# EAGLE library part PROTO (library Pinoccio)
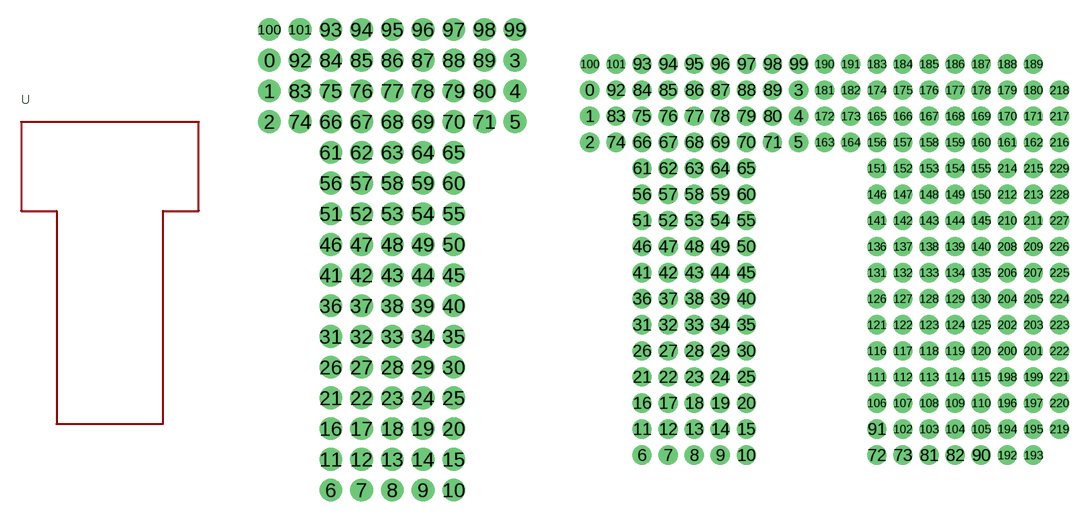
[diagram p12: symbol with the pads of 1X1PROTO; footprints 1X1PROTO, 1X1PROTOBIG]

Designator prefix -

## PROTO1  [1X1PROTO]
0  P$1
1  P$2
2  P$3
3  P$4
4  P$5
5  P$71
6  P$6
7  P$7
8  P$8
9  P$9
10  P$10
11  P$11
12  P$12
13  P$13
14  P$14
15  P$15
16  P$16
17  P$17
18  P$18
19  P$19
20  P$20
21  P$21
22  P$22
23  P$23
24  P$24
25  P$25
26  P$26
27  P$27
28  P$28
29  P$29
30  P$30
31  P$31
32  P$32
33  P$33
34  P$34
35  P$35
36  P$36
37  P$37
38  P$38
39  P$39
40  P$40
41  P$41
42  P$42
43  P$43
44  P$44
45  P$45
46  P$46
47  P$47
48  P$48
49  P$49
50  P$50
51  P$51
52  P$52
53  P$53
54  P$54
55  P$55
56  P$56
57  P$57
58  P$58
59  P$59
60  P$60
61  P$61
62  P$62
63  P$63
64  P$64
65  P$65
66  P$66
67  P$67
68  P$68
69  P$69
70  P$70
71  P$72
74  P$73
75  P$75
76  P$76
77  P$77
78  P$78
79  P$79
80  P$81
83  P$82
84  P$84
85  P$85
86  P$86
87  P$87
88  P$88
89  P$90
92  P$91
93  P$93
94  P$94
95  P$95
96  P$96
97  P$97
98  P$98
99  P$99
100  P$100
101  P$101

## PROTO2  [1X1PROTOBIG]

## Footprint 1X1PROTO (pad centres in mm)
drill 1.016 pad 1.88: 0 -5.08,38.1; 1 -5.08,35.56; 2 -5.08,33.02; 3 15.24,38.1; 4 15.24,35.56; 5 15.24,33.02; 6 0,2.54; 7 2.54,2.54; 8 5.08,2.54; 9 7.62,2.54; 10 10.16,2.54; 11 0,5.08; 12 2.54,5.08; 13 5.08,5.08; 14 7.62,5.08; 15 10.16,5.08; 16 0,7.62; 17 2.54,7.62; 18 5.08,7.62; 19 7.62,7.62; 20 10.16,7.62; 21 0,10.16; 22 2.54,10.16; 23 5.08,10.16; 24 7.62,10.16; 25 10.16,10.16; 26 0,12.7; 27 2.54,12.7; 28 5.08,12.7; 29 7.62,12.7; 30 10.16,12.7; 31 0,15.24; 32 2.54,15.24; 33 5.08,15.24; 34 7.62,15.24; 35 10.16,15.24; 36 0,17.78; 37 2.54,17.78; 38 5.08,17.78; 39 7.62,17.78; 40 10.16,17.78; 41 0,20.32; 42 2.54,20.32; 43 5.08,20.32; 44 7.62,20.32; 45 10.16,20.32; 46 0,22.86; 47 2.54,22.86; 48 5.08,22.86; 49 7.62,22.86; 50 10.16,22.86; 51 0,25.4; 52 2.54,25.4; 53 5.08,25.4; 54 7.62,25.4; 55 10.16,25.4; 56 0,27.94; 57 2.54,27.94; 58 5.08,27.94; 59 7.62,27.94; 60 10.16,27.94; 61 0,30.48; 62 2.54,30.48; 63 5.08,30.48; 64 7.62,30.48; 65 10.16,30.48; 66 0,33.02; 67 2.54,33.02; 68 5.08,33.02; 69 7.62,33.02; 70 10.16,33.02; 71 12.7,33.02; 74 -2.54,33.02; 75 0,35.56; 76 2.54,35.56; 77 5.08,35.56; 78 7.62,35.56; 79 10.16,35.56; 80 12.7,35.56; 83 -2.54,35.56; 84 0,38.1; 85 2.54,38.1; 86 5.08,38.1; 87 7.62,38.1; 88 10.16,38.1; 89 12.7,38.1; 92 -2.54,38.1; 93 0,40.64; 94 2.54,40.64; 95 5.08,40.64; 96 7.62,40.64; 97 10.16,40.64; 98 12.7,40.64; 99 15.24,40.64; 100 -5.08,40.64; 101 -2.54,40.64

## Footprint 1X1PROTOBIG (pad centres in mm)
drill 1.016 pad 1.88: 0 -5.08,35.56; 1 -5.08,33.02; 2 -5.08,30.48; 3 15.24,35.56; 4 15.24,33.02; 5 15.24,30.48; 6 0,0; 7 2.54,0; 8 5.08,0; 9 7.62,0; 10 10.16,0; 11 0,2.54; 12 2.54,2.54; 13 5.08,2.54; 14 7.62,2.54; 15 10.16,2.54; 16 0,5.08; 17 2.54,5.08; 18 5.08,5.08; 19 7.62,5.08; 20 10.16,5.08; 21 0,7.62; 22 2.54,7.62; 23 5.08,7.62; 24 7.62,7.62; 25 10.16,7.62; 26 0,10.16; 27 2.54,10.16; 28 5.08,10.16; 29 7.62,10.16; 30 10.16,10.16; 31 0,12.7; 32 2.54,12.7; 33 5.08,12.7; 34 7.62,12.7; 35 10.16,12.7; 36 0,15.24; 37 2.54,15.24; 38 5.08,15.24; 39 7.62,15.24; 40 10.16,15.24; 41 0,17.78; 42 2.54,17.78; 43 5.08,17.78; 44 7.62,17.78; 45 10.16,17.78; 46 0,20.32; 47 2.54,20.32; 48 5.08,20.32; 49 7.62,20.32; 50 10.16,20.32; 51 0,22.86; 52 2.54,22.86; 53 5.08,22.86; 54 7.62,22.86; 55 10.16,22.86; 56 0,25.4; 57 2.54,25.4; 58 5.08,25.4; 59 7.62,25.4; 60 10.16,25.4; 61 0,27.94; 62 2.54,27.94; 63 5.08,27.94; 64 7.62,27.94; 65 10.16,27.94; 66 0,30.48; 67 2.54,30.48; 68 5.08,30.48; 69 7.62,30.48; 70 10.16,30.48; 71 12.7,30.48; 72 22.86,0; 73 25.4,0; 74 -2.54,30.48; 75 0,33.02; 76 2.54,33.02; 77 5.08,33.02; 78 7.62,33.02; 79 10.16,33.02; 80 12.7,33.02; 81 27.94,0; 82 30.48,0; 83 -2.54,33.02; 84 0,35.56; 85 2.54,35.56; 86 5.08,35.56; 87 7.62,35.56; 88 10.16,35.56; 89 12.7,35.56; 90 33.02,0; 91 22.86,2.54; 92 -2.54,35.56; 93 0,38.1; 94 2.54,38.1; 95 5.08,38.1; 96 7.62,38.1; 97 10.16,38.1; 98 12.7,38.1; 99 15.24,38.1; 100 -5.08,38.1; 101 -2.54,38.1; 102 25.4,2.54; 103 27.94,2.54; 104 30.48,2.54; 105 33.02,2.54; 106 22.86,5.08; 107 25.4,5.08; 108 27.94,5.08; 109 30.48,5.08; 110 33.02,5.08; 111 22.86,7.62; 112 25.4,7.62; 113 27.94,7.62; 114 30.48,7.62; 115 33.02,7.62; 116 22.86,10.16; 117 25.4,10.16; 118 27.94,10.16; 119 30.48,10.16; 120 33.02,10.16; 121 22.86,12.7; 122 25.4,12.7; 123 27.94,12.7; 124 30.48,12.7; 125 33.02,12.7; 126 22.86,15.24; 127 25.4,15.24; 128 27.94,15.24; 129 30.48,15.24; 130 33.02,15.24; 131 22.86,17.78; 132 25.4,17.78; 133 27.94,17.78; 134 30.48,17.78; 135 33.02,17.78; 136 22.86,20.32; 137 25.4,20.32; 138 27.94,20.32; 139 30.48,20.32; 140 33.02,20.32; 141 22.86,22.86; 142 25.4,22.86; 143 27.94,22.86; 144 30.48,22.86; 145 33.02,22.86; 146 22.86,25.4; 147 25.4,25.4; 148 27.94,25.4; 149 30.48,25.4; 150 33.02,25.4; 151 22.86,27.94; 152 25.4,27.94; 153 27.94,27.94; 154 30.48,27.94; 155 33.02,27.94; 156 22.86,30.48; 157 25.4,30.48; 158 27.94,30.48; 159 30.48,30.48; 160 33.02,30.48; 161 35.56,30.48; 162 38.1,30.48; 163 17.78,30.48; 164 20.32,30.48; 165 22.86,33.02; 166 25.4,33.02; 167 27.94,33.02; 168 30.48,33.02; 169 33.02,33.02; 170 35.56,33.02; 171 38.1,33.02; 172 17.78,33.02; 173 20.32,33.02; 174 22.86,35.56; 175 25.4,35.56; 176 27.94,35.56; 177 30.48,35.56; 178 33.02,35.56; 179 35.56,35.56; 180 38.1,35.56; 181 17.78,35.56; 182 20.32,35.56; 183 22.86,38.1; 184 25.4,38.1; 185 27.94,38.1; 186 30.48,38.1; 187 33.02,38.1; 188 35.56,38.1; 189 38.1,38.1; 190 17.78,38.1; 191 20.32,38.1; 192 35.56,0; 193 38.1,0; 194 35.56,2.54; 195 38.1,2.54; 196 35.56,5.08; 197 38.1,5.08; 198 35.56,7.62; 199 38.1,7.62; 200 35.56,10.16; 201 38.1,10.16; 202 35.56,12.7; 203 38.1,12.7; 204 35.56,15.24; 205 38.1,15.24; 206 35.56,17.78; 207 38.1,17.78; 208 35.56,20.32; 209 38.1,20.32; 210 35.56,22.86; 211 38.1,22.86; 212 35.56,25.4; 213 38.1,25.4; 214 35.56,27.94; 215 38.1,27.94; 216 40.64,30.48; 217 40.64,33.02; 218 40.64,35.56; 219 40.64,2.54; 220 40.64,5.08; 221 40.64,7.62; 222 40.64,10.16; 223 40.64,12.7; 224 40.64,15.24; 225 40.64,17.78; 226 40.64,20.32; 227 40.64,22.86; 228 40.64,25.4; 229 40.64,27.94